# EAGLE library part 418121160810 (library EAGLE-TACT_SWITCHES-rev17c)
2.54 mm small compact SMD flat actuator with top tape WS-DISV,20 pins,10 poles br <http://katalog.we-online.de/media/images/v2/Family_WS_IC_4181211608xx_pf2.jpg> Details see: http://katalog.we-online.de/en/em/DISV_2_54_SMALL_COMPACT_SMD_FLAT_ACTUATOR Updated:2017-04-14 2017 (C) Wurth Elektronik
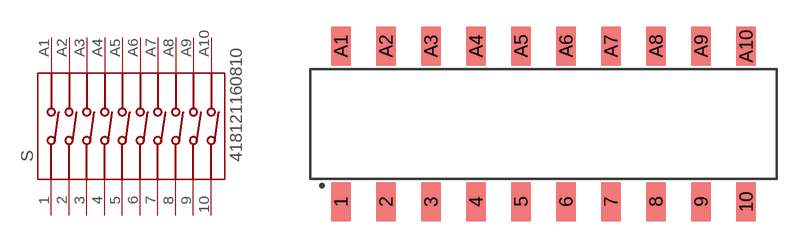
[diagram p31: symbol with the pads of 418121160810; footprint 418121160810]

Designator prefix S

## 418121160810  [418121160810]
1  1  pas
2  2  pas
3  3  pas
4  4  pas
5  5  pas
6  6  pas
7  7  pas
8  8  pas
9  9  pas
10  10  pas
A1  A1  pas
A2  A2  pas
A3  A3  pas
A4  A4  pas
A5  A5  pas
A6  A6  pas
A7  A7  pas
A8  A8  pas
A9  A9  pas
A10  A10  pas

## Footprint 418121160810 (pad centres in mm)
WS-IC-2.54 mm small compact SMD Dip Switch with top tape,20 pins,10 poles
smd 1.1 x 2.2: 1 -11.43,-4.4; 2 -8.89,-4.4; 3 -6.35,-4.4; 4 -3.81,-4.4; 5 -1.27,-4.4; 6 1.27,-4.4; 7 3.81,-4.4; 8 6.35,-4.4; 9 8.89,-4.4; 10 11.43,-4.4; A1 -11.43,4.4; A2 -8.89,4.4; A3 -6.35,4.4; A4 -3.81,4.4; A5 -1.27,4.4; A6 1.27,4.4; A7 3.81,4.4; A8 6.35,4.4; A9 8.89,4.4; A10 11.43,4.4